# Altium footprint library MOD-LM2596s.PcbLib: 1 footprints
Each footprint in its own frame and in the unit in brackets; x right, y up, seen from the top. Pads: shape width x height; smd on the part's side, far side on the other; paste and mask are expansions set on the pad; w line width, h text height; cw(c..) or ccw(c..) is an arc to the next point about the centre after c.
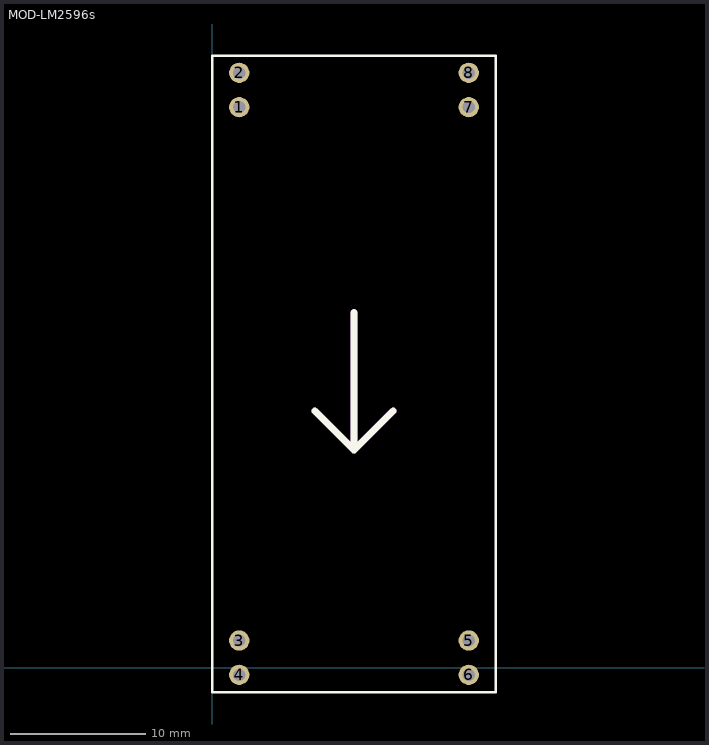
[diagram p0: the footprint, top view; thin cyan lines are the x and y axes]

## MOD-LM2596s [mm]
pads (8):
  round 1.5 hole 0.9: 1(2,41.5) 2(2,44.04) 3(2,2) 4(2,-0.54) 5(19,2) 6(19,-0.54) 7(19,41.5) 8(19,44.04)
Top Overlay:
  lines w0.2: 0,-1.825 0,45.3 21,45.3 21,-1.825 0,-1.825
  lines w0.5: 7.6,19 10.5,16.1 ; 10.5,26.3 10.5,16.1 ; 13.4,19 10.5,16.1
Top Assembly:
  lines w0.1: 0,-1.825 21,-1.825 21,45.3 0,45.3 0,-1.825
  lines w0.5: 7.6,19 10.5,16.1 ; 10.5,26.3 10.5,16.1 ; 13.4,19 10.5,16.1
  text "'.Designator'" at 16.9,24.8 h0.7
3D body "User Library-PLS-2.step": height 8.54, standoff -3, extent 17.705,40.225 20.245,45.305
3D body: height 4.95, standoff -7.44, extent 20.55,41.575 20.55,41.575
3D body: height 4.95, standoff -7.44, extent 0.45,41.575 0.45,41.575
3D body: height 4.95, standoff -7.44, extent 20.55,1.925 20.55,1.925
3D body: height 4.95, standoff -7.44, extent 0.45,1.925 0.45,1.925
3D body "User Library-PLS-2.step": height 8.54, standoff -3, extent 0.755,-1.805 3.295,3.275
3D body: height 0.3, standoff 0, extent 20.125,8.9 20.125,8.9
3D body: height 0.3, standoff 0, extent -7.825,8.825 -7.825,8.825
3D body "User Library-DC-DC MODULE LM2596s.STEP": height 15.91, standoff 2.1, extent 0,0 21,43.5
3D body "User Library-PLS-2.step": height 8.54, standoff -3, extent 17.755,-1.805 20.295,3.275
3D body "User Library-PLS-2.step": height 8.54, standoff -3, extent 0.705,40.225 3.245,45.305